# Altium schematic symbol library OPA4197QPWRQ1.SchLib: 2 symbols
Pins are listed as number, name and electrical type; pins without a type are passive.

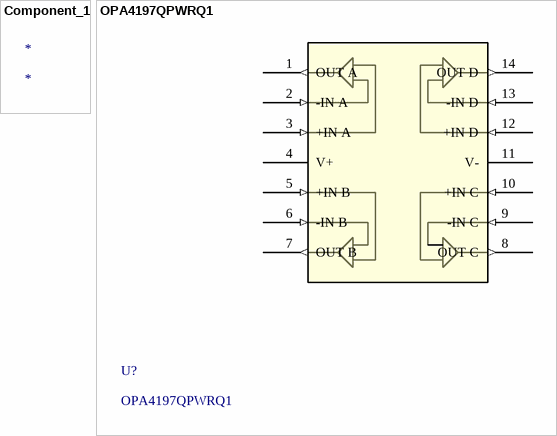
[diagram p0: symbols Component_1 to OPA4197QPWRQ1]

## Component_1
designator *

## OPA4197QPWRQ1
designator U?
No Description Available; Mfr_Name: Texas Instruments; Copyright: Copyright (C) 2024 Ultra Librarian. All rights reserved.; Manufacturer_Part_Number: OPA4197QPWRQ1; RefDes: RefDes; Type: DEV
footprint TSSOP_QPWRQ1_TEX
pins: 1 OUT A (out), 2 -IN A (in), 3 +IN A (in), 4 V+ (power), 5 +IN B (in), 6 -IN B (in), 7 OUT B (out), 8 OUT C (out), 9 -IN C (in), 10 +IN C (in), 11 V- (power), 12 +IN D (in), 13 -IN D (in), 14 OUT D (out)